# Altium footprint library Multiple Buck Converter.PcbLib: 12 footprints
Each footprint in its own frame and in the unit in brackets; x right, y up, seen from the top. Pads: shape width x height; smd on the part's side, far side on the other; paste and mask are expansions set on the pad; w line width, h text height; cw(c..) or ccw(c..) is an arc to the next point about the centre after c.
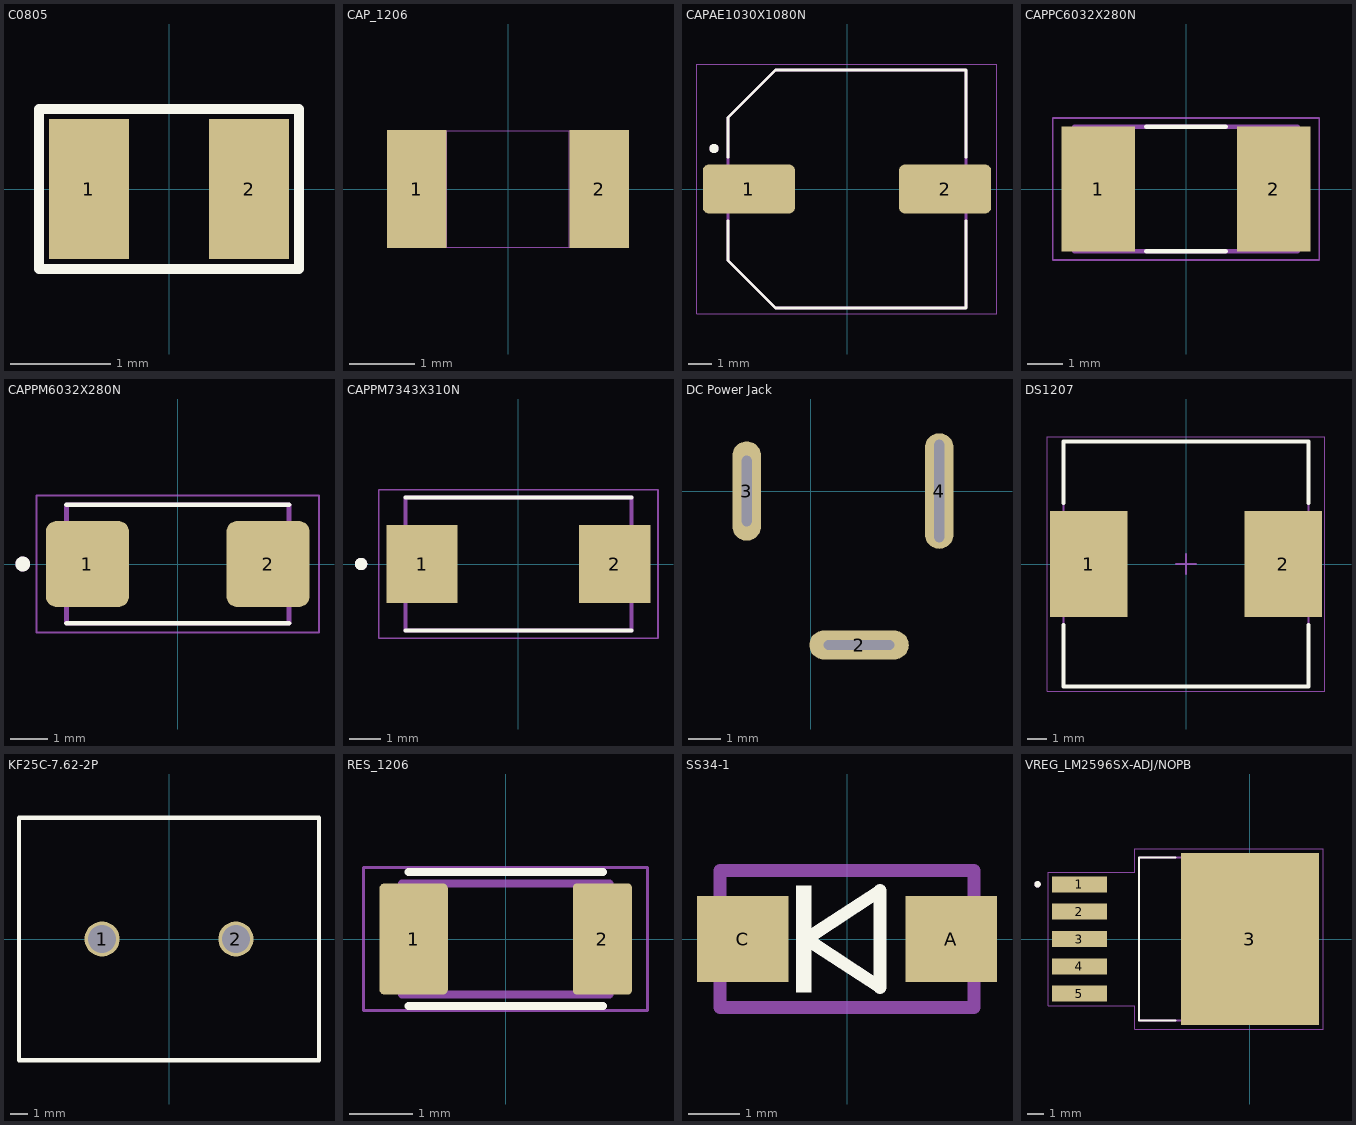
[diagram p0: the footprints below, top view; thin cyan lines are the x and y axes]

## C0805 [mm]
pads (2):
  rect 0.8x1.4 smd: 1(-0.8,0) 2(0.8,0)
Top Overlay:
  lines w0.1: -1.3,-0.8 1.3,-0.8 ; -1.3,-0.8 -1.3,0.8 ; -1.3,-0.8 1.3,-0.8 ; -1.3,-0.8 -1.3,0.8 ; -1.3,0.8 1.3,0.8 ; -1.3,0.8 1.3,0.8 ; 1.3,-0.8 1.3,0.8 ; 1.3,-0.8 1.3,0.8
3D body "CL21A106KOQNNNG.STEP": height 1.3, standoff 0.05, extent -1,-0.67 1,0.68

## CAP_1206 [mil]
pads (2):
  rect 36x71 smd: 1(-55,0) 2(55,0)
Mechanical 13:
  lines w0: -37,-35 -37,35 ; -37,-35 -67,-35 -67,35 -37,35 ; -37,-35 37,-35 ; -37,35 37,35 ; 37,-35 37,35 ; 37,-35 67,-35 67,35 37,35
3D body "CL31B105KBHNNNE.STEP": height 62.2, standoff -0.79, extent -62.99,-35 62.99,35.87

## CAPAE1030X1080N [mm]
pads (2):
  rrect25% 3.99x2.12 smd: 1(-4.24,0) 2(4.24,0)
Top Overlay:
  circle w0.2: c-5.75,1.75 r0.1
  lines w0.127: -5.15,-1.374 -5.15,-3.09 -3.09,-5.15 5.15,-5.15 5.15,-1.374 ; -5.15,1.374 -5.15,3.09 -3.09,5.15 5.15,5.15 5.15,1.374
Mechanical 13:
  circle w0.2: c-5.75,1.75 r0.1
  lines w0.127: -5.15,-3.09 -5.15,3.09 -3.09,5.15 5.15,5.15 5.15,-5.15 -3.09,-5.15 -5.15,-3.09
Mechanical 15:
  lines w0.05: -6.485,-5.4 -6.485,5.4 6.485,5.4 6.485,-5.4 -6.485,-5.4
3D body "UUD1H221MNL1GS--3DModel-STEP-56544.STEP": height 10.8, standoff 0, extent -5.323,-5.15 5.577,5.15

## CAPPC6032X280N [mm]
pads (2):
  rect 2.07x3.51 smd: 1(-2.471,0) 2(2.471,0)
Top Overlay:
  lines w0.127: -1.12,-1.75 1.12,-1.75 ; -1.12,1.75 1.12,1.75
Mechanical 13:
  lines w0.127: -3.15,-1.75 -3.15,1.75 3.15,1.75 3.15,-1.75 -3.15,-1.75
Mechanical 15:
  lines w0.05: -3.755,-2 -3.755,2 3.755,2 3.755,-2 -3.755,-2

## CAPPM6032X280N [mm]
pads (2):
  rrect25% 2.24x2.32 smd: 1(-2.435,0) 2(2.435,0)
Top Overlay:
  circle w0.2: c-4.18,0 r0.1
  lines w0.127: -3,-1.6 3,-1.6 ; -3,1.6 3,1.6
Mechanical 13:
  circle w0.2: c-4.18,0 r0.1
  lines w0.127: -3,-1.6 -3,1.6 3,1.6 3,-1.6 -3,-1.6
Mechanical 15:
  lines w0.05: -3.81,-1.85 -3.805,1.85 3.81,1.85 3.81,-1.85 -3.81,-1.85
3D body "T491C475K035AT.STEP": height 2.8, standoff 0, extent -3.127,-1.6 2.873,1.6

## CAPPM7343X310N [mm]
height 3.1
pads (2):
  rect 2.3x2.52 smd: 1(-3.11,0) 2(3.11,0)
Top Overlay:
  circle w0.2: c-5.08,0 r0.1
  lines w0.127: -3.65,-2.15 3.65,-2.15 ; -3.65,2.15 3.65,2.15
Mechanical 13:
  circle w0.2: c-5.08,0 r0.1
  lines w0.127: -3.65,-2.15 -3.65,2.15 3.65,2.15 3.65,-2.15 -3.65,-2.15
Mechanical 15:
  lines w0.05: -4.51,-2.4 -4.51,2.4 4.51,2.4 4.51,-2.4 -4.51,-2.4
3D body "step_temp.STEP": height 3.1, standoff 0, extent -3.65,-2.15 3.65,2.15

## DC Power Jack [mm] "5.5 Female DC Power Jack"
pads (3):
  oval 3.1x0.9 hole 0.3 slot 2.2 at 0 deg: 2(1.5,-4.8)
  oval 0.9x3.1 hole 0.3 slot 2.2 at 90 deg: 3(-2,0)
  oval 0.9x3.6 hole 0.3 slot 3.2 at 90 deg: 4(4,0)
3D body "DC Power Jack 5.5mm x 2.1mm.STEP": height 10.38, standoff -4, extent -9.653,-5.026 4.967,4.744

## DS1207 [mm] "Precision Wire Wound Inductor, 2-Leads, Body 12,25x12,25mm, IPC Medium Density"
height 8
pads (2):
  rect 3.95x5.4 smd: 1(-4.95,0) 2(4.95,0)
Top Overlay:
  lines w0.2: -6.25,-3.1 -6.25,-6.25 6.25,-6.25 6.25,-3.1 ; -6.25,3.1 -6.25,6.25 6.25,6.25 6.25,3.1
Mechanical 13:
  lines w0.1: -6.25,-6.25 6.25,-6.25 6.25,6.25 -6.25,6.25 -6.25,-6.25
Mechanical 15:
  lines w0.05: -7.075,-6.5 7.075,-6.5 7.075,6.5 -7.075,6.5 -7.075,-6.5
  lines w0.1: -0.5,0 0.5,0 ; 0,-0.5 0,0.5
3D body: height 8, standoff 0, extent -6.25,-6.25 6.25,6.25

## KF25C-7.62-2P [mm] "24A -40?~+105? 250V Black Midfoot Double - Walled(Double) 12~22 Straight pin 2 1 7.62mm 2.5 Straight,P=7.62mm Barrier Terminal Blocks ROHS"
pads (2):
  round 2 hole 1.6: 1(-3.81,0) 2(3.81,0)
Top Overlay:
  lines w0.254: -8.545,-6.9 8.545,-6.9 8.545,6.9 -8.545,6.9 -8.545,-6.9

## RES_1206 [mm]
pads (2):
  rrect14% 1.09x1.77 smd: 1(-1.465,0)
  rrect14% 0.94x1.77 smd: 2(1.54,0)
Top Overlay:
  lines w0.127: -1.55,-1.065 1.55,-1.065 ; -1.55,1.065 1.55,1.065
Mechanical 13:
  lines w0.127: -1.65,-0.88 1.65,-0.88 1.65,0.88 -1.65,0.88 -1.65,-0.88
Mechanical 15:
  lines w0.05: -2.26,-1.14 2.26,-1.14 2.26,1.14 -2.26,1.14 -2.26,-1.14
3D body "RC1206FR-071KL.STEP": height 0.65, standoff 0, extent -1.55,-0.8 1.55,0.8

## SS34-1 [mm]
pads (2):
  rect 1.8x1.7 smd: A(2.05,0) C(-2.05,0)
Top Overlay:
  region: -0.7,-1.05 -1,-1.05 -1,1.05 -0.7,1.05
  lines w0.254: -0.8,0 0.65,0.95 0.65,-0.95 -0.8,0
Mechanical 13:
  region: -2.6,-0.7 -2.85,-0.7 -2.85,0.65 -2.6,0.65
  region: 2.85,-0.7 2.6,-0.7 2.6,0.65 2.85,0.65
  lines w0.254: -2.5,-1.35 2.5,-1.35 2.5,1.35 -2.5,1.35 -2.5,-1.35
3D body "SS34.STEP": height 2.62, standoff 0, extent -2.57,-1.28 2.57,1.28

## VREG_LM2596SX-ADJ/NOPB [mm]
pads (6):
  rect 3.4x1 smd paste-3 mask+0: 1(-10.6,3.4) 2(-10.6,1.7) 3(-10.6,0) 4(-10.6,-1.7) 5(-10.6,-3.4)
  rect 8.6x10.7 smd paste-6 mask+0: 3(0,0)
Top Overlay:
  circle w0.2: c-13.2,3.4 r0.1
  lines w0.127: -4.62,-5.08 -6.905,-5.08 -6.905,5.08 -4.62,5.08
Top Paste:
  region: -8.95,-3.85 -12.25,-3.85 -12.25,-2.95 -8.95,-2.95
  region: -8.95,-2.15 -12.25,-2.15 -12.25,-1.25 -8.95,-1.25
  region: -8.95,2.95 -12.25,2.95 -12.25,3.85 -8.95,3.85
  region: -8.95,1.25 -12.25,1.25 -12.25,2.15 -8.95,2.15
  region: -8.95,-0.45 -12.25,-0.45 -12.25,0.45 -8.95,0.45
  region: 4.25,-5.3 -4.25,-5.3 -4.25,5.3 4.25,5.3
Top Solder:
  region: -8.83,-3.97 -12.37,-3.97 -12.37,-2.83 -8.83,-2.83
  region: -8.83,-2.27 -12.37,-2.27 -12.37,-1.13 -8.83,-1.13
  region: -8.83,2.83 -12.37,2.83 -12.37,3.97 -8.83,3.97
  region: -8.83,1.13 -12.37,1.13 -12.37,2.27 -8.83,2.27
  region: -8.83,-0.57 -12.37,-0.57 -12.37,0.57 -8.83,0.57
  region: 4.37,-5.42 -4.37,-5.42 -4.37,5.42 4.37,5.42
Mechanical 13:
  circle w0.2: c-13.2,3.4 r0.1
  lines w0.127: -6.905,-5.08 2.02,-5.08 2.02,5.08 -6.905,5.08 -6.905,-5.08
Mechanical 15:
  lines w0.05: -12.55,-4.15 -12.55,4.15 -7.155,4.15 -7.155,5.6 4.55,5.6 4.55,-5.6 -7.155,-5.6 -7.155,-4.15 -12.55,-4.15
3D body "step_temp.STEP": height 4.65, standoff -0.15, extent -10.858,-5.08 3.492,5.08